# Altium footprint library PCB - LED - GNS-3013AG.PCBLIB: 1 footprints
Each footprint in its own frame and in the unit in brackets; x right, y up, seen from the top. Pads: shape width x height; smd on the part's side, far side on the other; paste and mask are expansions set on the pad; w line width, h text height; cw(c..) or ccw(c..) is an arc to the next point about the centre after c.
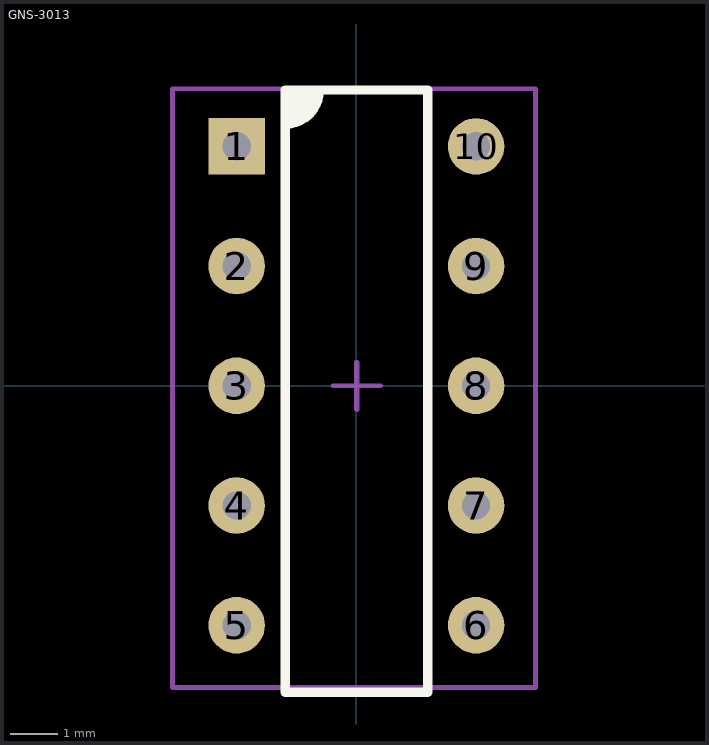
[diagram p0: the footprint, top view; thin cyan lines are the x and y axes]

## GNS-3013 [mm]
pads (10):
  rect 1.2x1.2 hole 0.6: 1(-2.54,5.08)
  round 1.2 hole 0.6: 2(-2.54,2.54) 3(-2.54,0) 4(-2.54,-2.54) 5(-2.54,-5.08) 6(2.54,-5.08) 7(2.54,-2.54) 8(2.54,0) 9(2.54,2.54) 10(2.54,5.08)
Top Overlay:
  region: -1.512,6.275 -0.762,6.275 -0.762,5.95 -1.162,5.55 -1.512,5.55
  lines w0.2: -1.512,5.55 ccw(c-1.512,6.275) -0.787,6.275 ; -1.512,-6.5 1.512,-6.5 1.512,6.275 -1.512,6.275 -1.512,-6.5
  text "." at -2.7,6.4 h10
Top Component Center:
  lines w0.1: -0.501,0 0.499,0 ; -0.001,-0.5 -0.001,0.5
Top Assembly:
  lines w0.1: -0.486,-0.002 0.514,-0.002 ; 0.014,-0.502 0.014,0.498
Top Courtyard:
  lines w0.1: -3.9,-6.4 3.8,-6.4 3.8,6.3 -3.9,6.3 -3.9,-6.4
3D body "GNS-3013.step": height 6.1, standoff -7.3, extent -3.8,-6.4 3.8,6.3